# Altium schematic symbol library GCT_USB-A.SchLib: 4 symbols
Pins are listed as number, name and electrical type; pins without a type are passive.

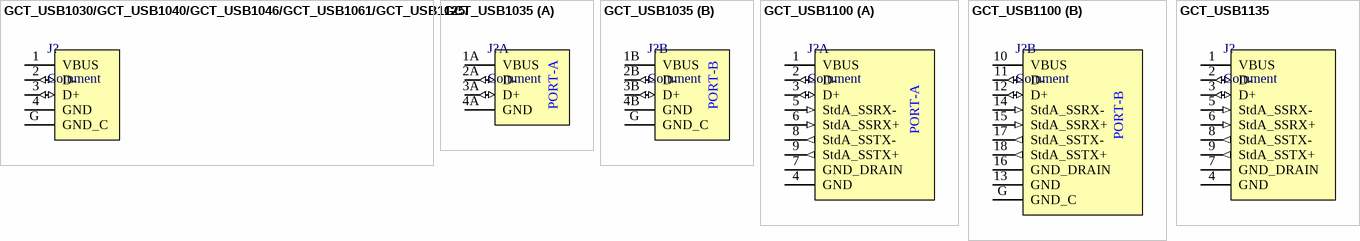
[diagram p0: symbols GCT_USB1030/GCT_USB1040/GCT_USB1046/GCT_USB1061/GCT_USB1125/GCT_USB1130 to GCT_USB1135]

## GCT_USB1030/GCT_USB1040/GCT_USB1046/GCT_USB1061/GCT_USB1125/GCT_USB1130
designator J?, comment Comment
pins: 1 VBUS (power) "Bus Power", 2 D- (io) "USB Data -", 3 D+ (io) "USB Data +", 4 GND (power) "Ground return", G GND_C (power) "Chassis ground"

## GCT_USB1035
designator J?, comment Comment
part A pins: 1A VBUS (power) "Bus Power", 2A D- (io) "USB Data -", 3A D+ (io) "USB Data +", 4A GND (power) "Ground return"
part B pins: 1B VBUS (power) "Bus Power", 2B D- (io) "USB Data -", 3B D+ (io) "USB Data +", 4B GND (power) "Ground return", G GND_C (power) "Chassis ground"
part A text: PORT-A
part B text: PORT-B

## GCT_USB1100
designator J?, comment Comment
part A pins: 1 VBUS (power) "Bus Power", 2 D- (io) "USB 2.0 differential data line (negative).", 3 D+ (io) "USB 2.0 differential data line (positive).", 4 GND (power) "Ground connection for power return.", 5 StdA_SSRX- (in) "USB Superspeed receiver differential pair (negative).", 6 StdA_SSRX+ (in) "USB Superspeed receiver differential pair (positive).", 7 GND_DRAIN (power) "Ground for signal return (used for shielding).", 8 StdA_SSTX- (out) "USB Superspeed transmitter differential pair (negative).", 9 StdA_SSTX+ (out) "USB Superspeed transmitter differential pair (positive)."
part B pins: 10 VBUS (power) "Bus Power", 11 D- (io) "USB 2.0 differential data line (negative).", 12 D+ (io) "USB 2.0 differential data line (positive).", 13 GND (power) "Ground connection for power return.", 14 StdA_SSRX- (in) "USB Superspeed receiver differential pair (negative).", 15 StdA_SSRX+ (in) "USB Superspeed receiver differential pair (positive).", 16 GND_DRAIN (power) "Ground for signal return (used for shielding).", 17 StdA_SSTX- (out) "USB Superspeed transmitter differential pair (negative).", 18 StdA_SSTX+ (out) "USB Superspeed transmitter differential pair (positive).", G GND_C (power) "Chassis ground"
part A text: PORT-A
part B text: PORT-B

## GCT_USB1135
designator J?, comment Comment
pins: 1 VBUS (power) "Bus Power", 2 D- (io) "USB 2.0 differential data line (negative).", 3 D+ (io) "USB 2.0 differential data line (positive).", 4 GND (power) "Ground connection for power return.", 5 StdA_SSRX- (in) "USB Superspeed receiver differential pair (negative).", 6 StdA_SSRX+ (in) "USB Superspeed receiver differential pair (positive).", 7 GND_DRAIN (power) "Ground for signal return (used for shielding).", 8 StdA_SSTX- (out) "USB Superspeed transmitter differential pair (negative).", 9 StdA_SSTX+ (out) "USB Superspeed transmitter differential pair (positive)."